# EAGLE library part 68801011622 (library Wire-to-Board (rev18a))
WR-WTB 2.50mm "J"Type Vertical Male Shrouded Header, 10 Pins=>Code : WR-WTB_Stiftleiste_J_68801011622 <http://katalog.we-online.de/media/thumbs2/eican/thb_WR-WTB_Stiftleiste_J_68800116622.jpg> Details see: http://katalog.we-online.de/en/em/WTB_2_50_J_TYPE_VERTICAL_MALE_SHROUDED_HEADER_6880XX11622 Created 2014-06-05, Karrer Zheng 2014 (C) Würth Elektronik
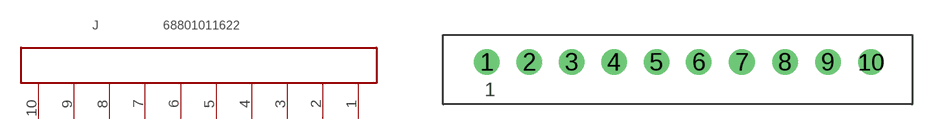
[diagram p17: symbol with the pads of 68801011622; footprint 68801011622]

Designator prefix J

## 68801011622  [68801011622]
1  1  pas
2  2  pas
3  3  pas
4  4  pas
5  5  pas
6  6  pas
7  7  pas
8  8  pas
9  9  pas
10  10  pas

## Footprint 68801011622 (pad centres in mm)
WR-WTB 2.50mm "J" Type Vertical Male Shrouded Header, 10 Pins
drill 1: 1 -11.25,0; 2 -8.75,0; 3 -6.25,0; 4 -3.75,0; 5 -1.25,0; 6 1.25,0; 7 3.79,0; 8 6.33,0; 9 8.87,0; 10 11.41,0